# Altium footprint library S2B-PH-SM4-TB_LF__SN_.PcbLib: 1 footprints
Each footprint in its own frame and in the unit in brackets; x right, y up, seen from the top. Pads: shape width x height; smd on the part's side, far side on the other; paste and mask are expansions set on the pad; w line width, h text height; cw(c..) or ccw(c..) is an arc to the next point about the centre after c.
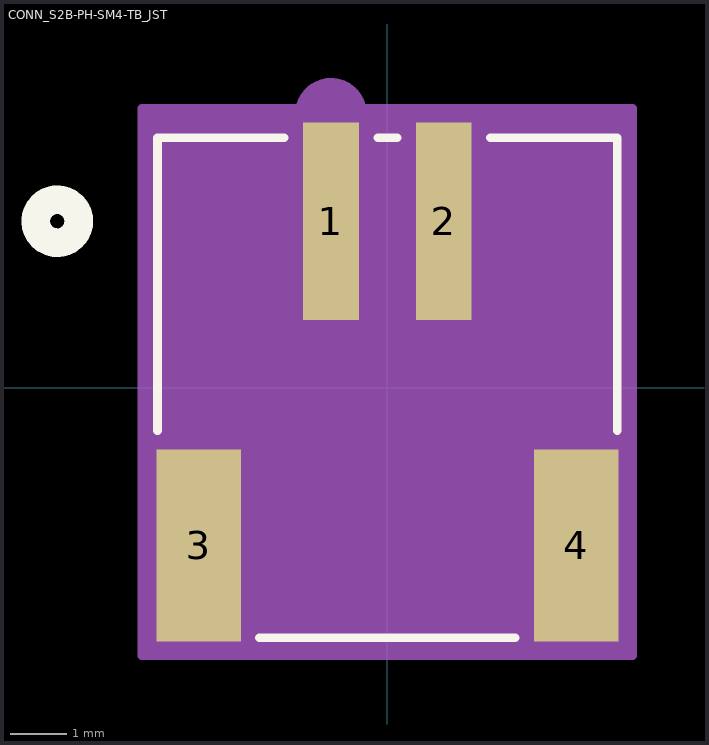
[diagram p0: the footprint, top view; thin cyan lines are the x and y axes]

## CONN_S2B-PH-SM4-TB_JST [mil]
pads (4):
  rect 39x138 smd paste+0 mask+0: 1(-39.37,116.35) 2(39.37,116.35)
  rect 59x134 smd: 3(-131.89,-110.03) 4(131.89,-110.03)
Top Overlay:
  circle w20: c-230.5,116.35 r15
  lines w6: -160.5,-29.93 -160.5,174.5 -71.97,174.5 ; -89.29,-174.5 89.29,-174.5 ; -6.77,174.5 6.77,174.5 ; 71.97,174.5 160.5,174.5 160.5,-29.93
Bottom Overlay:
  circle w20: c-230.5,116.35 r15
Mechanical 5:
  region: -170.5,184.5 170.5,184.5 170.5,-184.5 -170.5,-184.5
Mechanical 13:
  circle w20: c-39.37,191.35 r15
  lines w1: -155.5,-169.5 155.5,-169.5 155.5,169.5 -155.5,169.5 -155.5,-169.5
Mechanical 15:
  region: 171.39,195.35 -171.39,195.35 -171.39,-187.03 171.39,-187.03
  lines w6: -171.39,-187.03 -171.39,195.35 171.39,195.35 171.39,-187.03 -171.39,-187.03
3D body: height 10, standoff 0, extent 0,0 10,10